# Altium footprint library Crystal_Oscillator.PcbLib: 1 footprints
Each footprint in its own frame and in the unit in brackets; x right, y up, seen from the top. Pads: shape width x height; smd on the part's side, far side on the other; paste and mask are expansions set on the pad; w line width, h text height; cw(c..) or ccw(c..) is an arc to the next point about the centre after c.
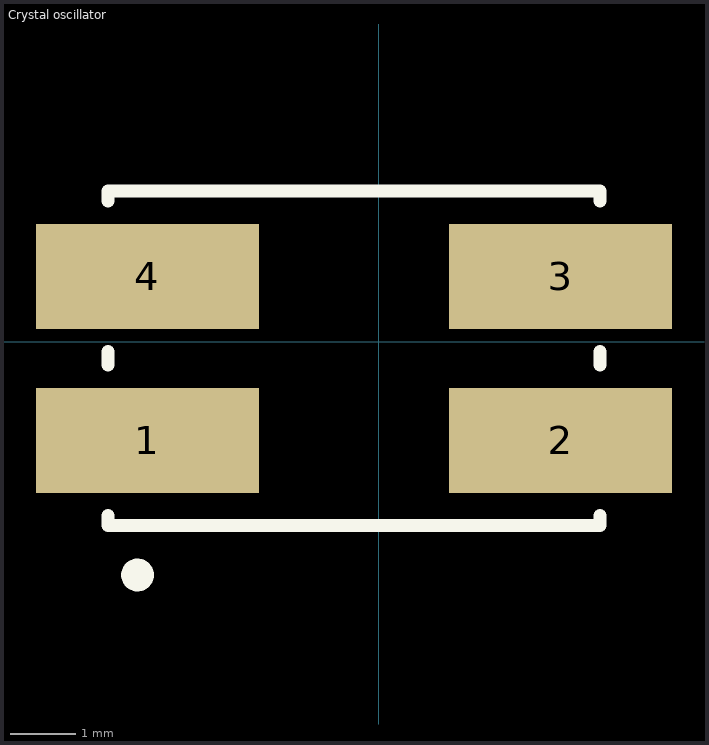
[diagram p0: the footprint, top view; thin cyan lines are the x and y axes]

## Crystal oscillator [mm]
pads (4):
  rect 3.4x1.6 smd: 1(-3.531,-1.504) 2(2.769,-1.504) 3(2.769,0.996) 4(-3.531,0.996)
Top Overlay:
  circle w0.25: c-3.681,-3.556 r0.125
  lines w0.2: -4.131,-2.654 -4.131,-2.804 3.369,-2.804 3.369,-2.654 ; -4.131,-0.354 -4.131,-0.154 ; -4.131,2.146 -4.131,2.296 3.369,2.296 3.369,2.146 ; 3.369,-0.354 3.369,-0.154